# Altium schematic symbol library FA128.SchLib: 1 symbol
Pins are listed as number, name and electrical type; pins without a type are passive.

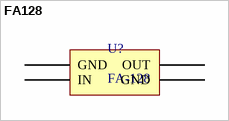
[diagram p0: symbol FA128]

## FA128
designator U?, comment FA-128
FA-128 26.0000MF10Z-W3
footprint DFN95P200X50-4N (DFN, 4-Leads, Body 1.60x2.00mm, Pitch 0.95mm, IPC Medium Density)
pins: 1 IN, 2 GND, 3 OUT, 4 GND